# Altium integrated library DS1307Z_.IntLib: 1 symbol
Pins are listed as number, name and electrical type; pins without a type are passive.

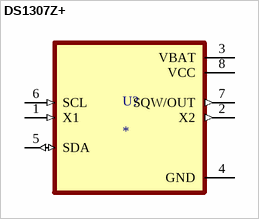
[diagram p0: symbol DS1307Z+]

## DS1307Z+
designator U?
64 x 8, Serial, IÂ²C Real-Time Clock; MF: Analog Devices; MP: DS1307Z+; SnapEDA_Link: https://www.snapeda.com/parts/DS1307Z+/Analog+Devices/view-part/?ref=snap; Package: SOIC-8 Maxim; Value: *; Check_prices: https://www.snapeda.com/parts/DS1307Z+/Analog+Devices/view-part/?ref=eda
footprint SOIC127P600X175-8N
pins: 1 X1 (in), 2 X2 (out), 3 VBAT (power), 4 GND (power), 5 SDA (io), 6 SCL (in), 7 SQW/OUT (out), 8 VCC (power)